# Altium integrated library sensor vibracion SW.IntLib: 2 symbols
Pins are listed as number, name and electrical type; pins without a type are passive.

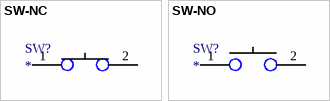
[diagram p0: symbols SW-NC to SW-NO]

## SW-NC
designator SW?
footprint SW-420
pins: 1, 2

## SW-NO
designator SW?
ComponentLink1Description: datasheet; ComponentLink1URL: https://media.digikey.com/pdf/Data%20Sheets/Adafruit%20PDFs/1766_Web.pdf; ComponentLink2Description: link; ComponentLink2URL: https://www.digikey.es/product-detail/es/1766/1528-2158-ND/7244944
footprint SW-18010P
pins: 1, 2